# EAGLE library part DIN41651_10P (library mylib)
DIN 41651 10P contact https://www.elfa.se/elfa3~se_sv/elfa/init.do?item=43-653-93&toc=0&q=DIN+41651+10P
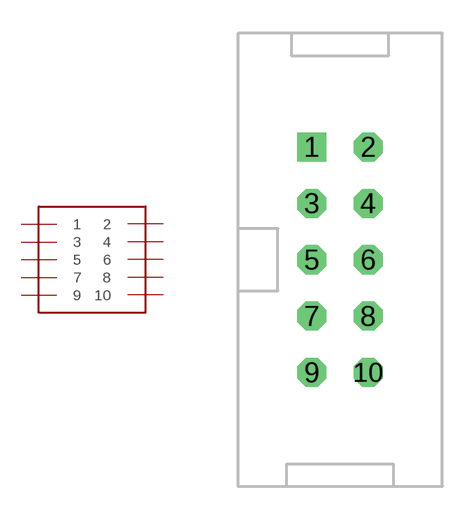
[diagram p4: symbol with the pads of DIN41651_10P; footprint DIN41651_10P]

Designator prefix -

## DIN41651_10P  [DIN41651_10P]
1  1
2  2
3  3
4  4
5  5
6  6
7  7
8  8
9  9
10  10

## Footprint DIN41651_10P (pad centres in mm)
DIN 41651 10P contact
drill 0.8 square: 1 -1.27,5.08
drill 0.8 octagon: 2 1.27,5.08; 3 -1.27,2.54; 4 1.27,2.54; 5 -1.27,0; 6 1.27,0; 7 -1.27,-2.54; 8 1.27,-2.54; 9 -1.27,-5.08; 10 1.27,-5.08